# Altium integrated library fujitsu.IntLib: 1 symbol
Pins are listed as number, name and electrical type; pins without a type are passive.

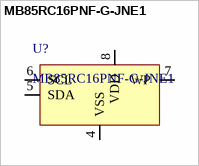
[diagram p0: symbol MB85RC16PNF-G-JNE1]

## MB85RC16PNF-G-JNE1
designator U?
Memory FRAM  16 K (2 K × 8) Bit I2C
footprint FPT-8P-M02 (SOP, 8-Leads, Body 5.05x3.90mm, Pitch 1.27mm, IPC Medium Density)
pins: 4 VSS, 5 SDA, 6 SCL, 7 WP, 8 VDD